# Altium footprint library tyco-hpi.PcbLib: 23 footprints (part 1 of 2)
Each footprint in its own frame and in the unit in brackets; x right, y up, seen from the top. Pads: shape width x height; smd on the part's side, far side on the other; paste and mask are expansions set on the pad; w line width, h text height; cw(c..) or ccw(c..) is an arc to the next point about the centre after c.
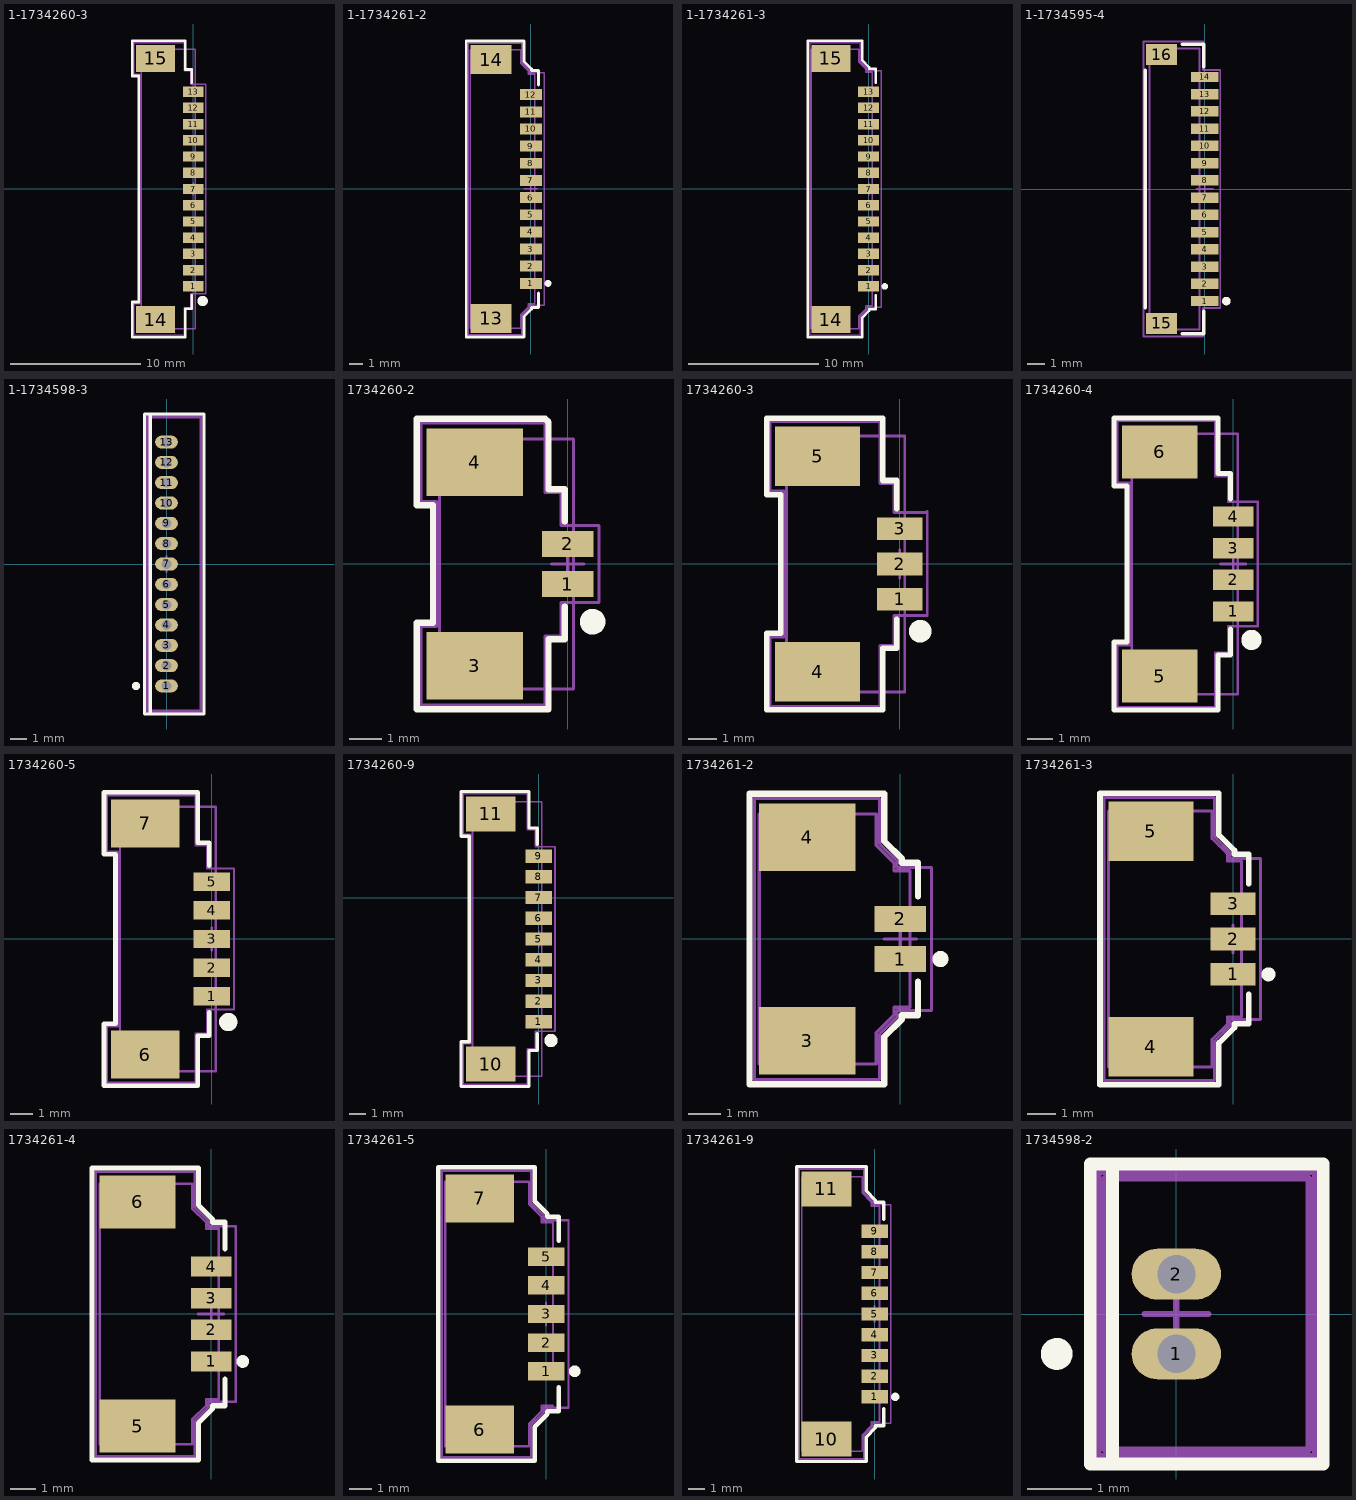
[diagram p0: the footprints below, top view; thin cyan lines are the x and y axes]

## 1-1734260-3 [mm] "13pos, 1.25mm Wire to Board Connector, Header, SMT, Vertical"
height 4.75
pads (15):
  rect 1.6x0.8 smd: 1(0,-7.5) 2(0,-6.25) 3(0,-5) 4(0,-3.75) 5(0,-2.5) 6(0,-1.25) 7(0,0) 8(0,1.25) 9(0,2.5) 10(0,3.75) 11(0,5) 12(0,6.25) 13(0,7.5)
  rect 3x2.1 smd: 14(-2.9,-10.05) 15(-2.9,10.05)
Top Overlay:
  circle w0.4: c0.725,-8.625 r0.2
  lines w0.2: -0.1,-8.2 -0.1,-9.225 -0.6,-9.225 -0.6,-11.4 -4.7,-11.4 -4.7,-8.7 -4.2,-8.7 -4.2,-7.75 -4.2,8.7 -4.7,8.7 -4.7,11.4 -0.6,11.4 -0.6,9.7 -0.6,9.2 -0.1,9.2 -0.1,8.2
Mechanical 13:
  lines w0.1: -0.5,0 0.5,0 ; 0,-0.5 0,0.5 ; -4,-10.775 0.175,-10.775 0.175,10.775 -4,10.775 -4,-10.775
Mechanical 15:
  lines w0.1: -4.575,-11.275 -0.7,-11.275 -0.7,-9.125 -0.2,-9.125 -0.2,-8.075 0.975,-8.075 0.975,8.075 -0.2,8.075 -0.2,9.1 -0.7,9.1 -0.7,11.275 -4.575,11.275 -4.575,8.825 -4.1,8.825 -4.1,-7.975 -4.1,-8.825 -4.575,-8.825 -4.575,-11.275
  text ".Designator" at -1.925,-2.475 h0.5
3D body: height 4.77, standoff 0.02, extent -4,-10.77 0.2,10.77

## 1-1734261-2 [mm] "12pos, 1.25mm Wire to Board Connector, Header, SMT, Right Angle"
height 3.45
pads (14):
  rect 1.6x0.8 smd: 1(0,-6.875) 2(0,-5.625) 3(0,-4.375) 4(0,-3.125) 5(0,-1.875) 6(0,-0.625) 7(0,0.625) 8(0,1.875) 9(0,3.125) 10(0,4.375) 11(0,5.625) 12(0,6.875)
  rect 3x2.1 smd: 13(-2.9,-9.425) 14(-2.9,9.425)
Top Overlay:
  circle w0.25: c1.25,-6.875 r0.125
  lines w0.2: -4.7,-10.775 -0.5,-10.775 -0.5,-9.3 0.05,-8.75 0.05,-8.625 0.55,-8.625 0.55,-7.575 ; -4.7,-10.75 -4.7,10.775 -0.5,10.775 -0.5,9.3 0.05,8.75 0.05,8.625 0.55,8.625 0.55,7.575
Mechanical 13:
  lines w0.1: -0.5,0 0.5,0 ; 0,-0.5 0,0.5 ; -4.4,-10.15 -4.4,10.15 -0.75,10.15 -0.75,9.175 -0.2,8.625 -0.2,8.375 0.3,8.375 0.3,-8.375 -0.2,-8.375 -0.2,-8.625 -0.75,-9.175 -0.75,-10.15 -4.4,-10.15
Mechanical 15:
  lines w0.1: -4.55,-10.625 -4.55,10.625 -0.65,10.625 -0.65,9.225 -0.1,8.675 -0.1,8.475 0.975,8.475 0.975,-8.475 -0.1,-8.475 -0.1,-8.675 -0.65,-9.225 -0.65,-10.625 -4.55,-10.625
  text ".Designator" at -1.925,-1.85 h0.5
3D body: height 3.47, standoff 0.01, extent -4.4,-10.145 0.3,10.145

## 1-1734261-3 [mm] "13pos, 1.25mm Wire to Board Connector, Header, SMT, Right Angle"
height 3.45
pads (15):
  rect 1.6x0.8 smd: 1(0,-7.5) 2(0,-6.25) 3(0,-5) 4(0,-3.75) 5(0,-2.5) 6(0,-1.25) 7(0,0) 8(0,1.25) 9(0,2.5) 10(0,3.75) 11(0,5) 12(0,6.25) 13(0,7.5)
  rect 3x2.1 smd: 14(-2.9,-10.05) 15(-2.9,10.05)
Top Overlay:
  circle w0.25: c1.25,-7.5 r0.125
  lines w0.2: -4.7,-11.4 -0.5,-11.4 -0.5,-9.925 0.05,-9.375 0.05,-9.25 0.55,-9.25 0.55,-8.2 ; -4.7,-11.375 -4.7,11.4 -0.5,11.4 -0.5,9.925 0.05,9.375 0.05,9.25 0.55,9.25 0.55,8.2
Mechanical 13:
  lines w0.1: -0.5,0 0.5,0 ; 0,-0.5 0,0.5 ; -4.4,-10.775 -0.75,-10.775 -0.75,-9.8 -0.2,-9.25 -0.2,-9 0.3,-9 0.3,9 -0.2,9 -0.2,9.25 -0.75,9.8 -0.75,10.775 -4.4,10.775 -4.4,-10.775
Mechanical 15:
  lines w0.1: -4.55,-11.25 -0.65,-11.25 -0.65,-9.85 -0.1,-9.3 -0.1,-9.1 0.975,-9.1 0.975,9.1 -0.1,9.1 -0.1,9.3 -0.65,9.85 -0.65,11.25 -4.55,11.25 -4.55,-11.25
  text ".Designator" at -1.925,-2.475 h0.5
3D body: height 3.47, standoff 0.01, extent -4.4,-10.77 0.3,10.77

## 1-1734595-4 [mm] "14pos, 1.00mm Wire to Board Connector, Header, SMT, Vertical"
height 4.3
pads (16):
  rect 1.6x0.6 smd: 1(0,-6.5) 2(0,-5.5) 3(0,-4.5) 4(0,-3.5) 5(0,-2.5) 6(0,-1.5) 7(0,-0.5) 8(0,0.5) 9(0,1.5) 10(0,2.5) 11(0,3.5) 12(0,4.5) 13(0,5.5) 14(0,6.5)
  rect 1.8x1.2 smd: 15(-2.5,-7.8) 16(-2.5,7.8)
Top Overlay:
  circle w0.25: c1.25,-6.5 r0.125
  lines w0.2: -3.45,-6.9 -3.45,6.9 ; -1.3,-8.4 -0.05,-8.4 -0.05,-7.1 ; -1.3,8.4 -0.05,8.4 -0.05,7.1
Mechanical 13:
  lines w0.1: -0.5,0 0.5,0 ; 0,-0.5 0,0.5 ; -3.2,-8.15 -3.2,8.15 -0.3,8.15 -0.3,-8.15 -3.2,-8.15
Mechanical 15:
  lines w0.1: -3.55,-8.55 -0.1,-8.55 -0.1,-6.9 0.9,-6.9 0.9,6.9 -0.1,6.9 -0.1,8.55 -3.55,8.55 -3.55,-8.55
  text ".Designator" at -1.2,-7.675 h0.5
3D body: height 4.3, standoff 0, extent -3.2,-8.15 0.4,8.15

## 1-1734598-3 [mm] "1.25mm Wire to Board Connector"
height 4.7
pads (13):
  oval 1.4x0.8 hole 0.6: 1(0,-7.5) 2(0,-6.25) 3(0,-5) 4(0,-3.75) 5(0,-2.5) 6(0,-1.25) 7(0,0) 8(0,1.25) 9(0,2.5) 10(0,3.75) 11(0,5) 12(0,6.25) 13(0,7.5)
Top Overlay:
  circle w0.25: c-1.875,-7.5 r0.125
  lines w0.2: -1,-9.2 -1,9.225 ; -1.35,-9.225 -1.35,9.225 2.3,9.225 2.3,-9.225 -1.35,-9.225
Mechanical 13:
  lines w0.1: -0.5,0 0.5,0 ; 0,-0.5 0,0.5 ; -1.125,-9 -1.125,9 2.075,9 2.075,-9 -1.125,-9
Mechanical 15:
  lines w0.1: -1.225,-9.1 -1.225,9.1 2.175,9.1 2.175,-9.1 -1.225,-9.1
  text ".Designator" at 1.25,-7.5 h0.5
3D body: height 4.72, standoff -1.68, extent -1.125,-9 2.075,9

## 1734260-2 [mm] "2pos, 1.25mm Wire to Board Connector, Header, SMT, Vertical"
height 4.75
pads (4):
  rect 1.6x0.8 smd: 1(0,-0.625) 2(0,0.625)
  rect 3x2.1 smd: 3(-2.9,-3.175) 4(-2.9,3.175)
Top Overlay:
  circle w0.4: c0.775,-1.8 r0.2
  lines w0.2: -4.2,1.15 -4.2,1.825 -4.7,1.825 -4.7,4.525 -0.7,4.525 -0.6,4.425 -0.6,2.825 -0.6,2.325 -0.1,2.325 -0.1,1.325 ; -4.2,1.8 -4.2,-0.875 -4.2,-1.825 -4.7,-1.825 -4.7,-4.525 -0.6,-4.525 -0.6,-2.35 -0.1,-2.35 -0.1,-1.325
Mechanical 13:
  lines w0.1: -0.5,0 0.5,0 ; 0,-0.5 0,0.5 ; -4,-3.9 -4,3.9 0.175,3.9 0.175,-3.9 -4,-3.9
Mechanical 15:
  lines w0.1: -4.575,-4.4 -4.575,-1.95 -4.1,-1.95 -4.1,1.95 -4.575,1.95 -4.575,4.4 -0.7,4.4 -0.7,2.225 -0.2,2.225 -0.2,1.2 0.975,1.2 0.975,-1.2 -0.2,-1.2 -0.2,-2.25 -0.7,-2.25 -0.7,-4.4 -4.575,-4.4
  text ".Designator" at -1.2,-1.8 h0.5
3D body: height 4.73, standoff -0.02, extent -4,-3.895 0.2,3.895

## 1734260-3 [mm] "3pos, 1.25mm Wire to Board Connector, Header, SMT, Vertical"
height 4.75
pads (5):
  rect 1.6x0.8 smd: 1(0,-1.25) 2(0,0) 3(0,1.25)
  rect 3x2.1 smd: 4(-2.9,-3.8) 5(-2.9,3.8)
Top Overlay:
  circle w0.4: c0.725,-2.375 r0.2
  lines w0.2: -0.1,-1.95 -0.1,-2.975 -0.6,-2.975 -0.6,-5.15 -4.7,-5.15 -4.7,-2.45 -4.2,-2.45 -4.2,-1.5 -4.2,2.45 -4.7,2.45 -4.7,5.15 -0.6,5.15 -0.6,3.45 -0.6,2.95 -0.1,2.95 -0.1,1.95
Mechanical 13:
  lines w0.1: -0.5,0 0.5,0 ; 0,-0.5 0,0.5 ; -4,-4.525 0.175,-4.525 0.175,4.525 -4,4.525 -4,-4.525
Mechanical 15:
  lines w0.1: 0.975,1.825 -0.2,1.825 -0.2,2.85 -0.7,2.85 -0.7,5.025 -4.575,5.025 -4.575,2.575 -4.1,2.575 -4.1,-2.575 -4.575,-2.575 -4.575,-5.025 -0.7,-5.025 -0.7,-2.875 -0.2,-2.875 -0.2,-1.825 0.975,-1.825 0.975,1.85
  text ".Designator" at -1.2,-2.425 h0.5
3D body: height 4.73, standoff -0.02, extent -4,-4.52 0.2,4.52

## 1734260-4 [mm] "4pos, 1.25mm Wire to Board Connector, Header, SMT, Vertical"
height 4.75
pads (6):
  rect 1.6x0.8 smd: 1(0,-1.875) 2(0,-0.625) 3(0,0.625) 4(0,1.875)
  rect 3x2.1 smd: 5(-2.9,-4.425) 6(-2.9,4.425)
Top Overlay:
  circle w0.4: c0.725,-3 r0.2
  lines w0.2: -0.1,-2.575 -0.1,-3.6 -0.6,-3.6 -0.6,-5.775 -4.7,-5.775 -4.7,-3.075 -4.2,-3.075 -4.2,-2.125 -4.2,2.4 -4.2,3.075 -4.7,3.075 -4.7,5.775 -0.6,5.775 -0.6,4.075 -0.6,3.575 -0.1,3.575 -0.1,2.575
Mechanical 13:
  lines w0.1: -0.5,0 0.5,0 ; 0,-0.5 0,0.5 ; -4,-5.15 0.175,-5.15 0.175,5.15 -4,5.15 -4,-5.15
Mechanical 15:
  lines w0.1: -4.575,-5.65 -0.7,-5.65 -0.7,-3.5 -0.2,-3.5 -0.2,-2.45 0.975,-2.45 0.975,2.45 -0.2,2.45 -0.2,3.475 -0.7,3.475 -0.7,5.65 -4.575,5.65 -4.575,3.2 -4.1,3.2 -4.1,2.35 -4.1,-2.35 -4.1,-3.2 -4.575,-3.2 -4.575,-5.65
  text ".Designator" at -1.2,-3.05 h0.5
3D body: height 4.73, standoff -0.02, extent -4,-5.145 0.2,5.145

## 1734260-5 [mm] "5pos, 1.25mm Wire to Board Connector, Header, SMT, Vertical"
height 4.75
pads (7):
  rect 1.6x0.8 smd: 1(0,-2.5) 2(0,-1.25) 3(0,0) 4(0,1.25) 5(0,2.5)
  rect 3x2.1 smd: 6(-2.9,-5.05) 7(-2.9,5.05)
Top Overlay:
  circle w0.4: c0.725,-3.625 r0.2
  lines w0.2: -0.1,-3.2 -0.1,-4.225 -0.6,-4.225 -0.6,-6.4 -4.7,-6.4 -4.7,-3.7 -4.2,-3.7 -4.2,3.7 -4.7,3.7 -4.7,6.4 -0.6,6.4 -0.6,4.7 -0.6,4.2 -0.1,4.2 -0.1,3.2
Mechanical 13:
  lines w0.1: -4,-5.775 0.175,-5.775 0.175,5.775 -4,5.775 -4,-4.525 ; -0.5,0 0.5,0 ; 0,-0.5 0,0.5
Mechanical 15:
  lines w0.1: -4.575,-6.275 -0.7,-6.275 -0.7,-4.125 -0.2,-4.125 -0.2,-3.075 0.975,-3.075 0.975,3.075 -0.2,3.075 -0.2,4.1 -0.7,4.1 -0.7,6.275 -4.575,6.275 -4.575,3.825 -4.1,3.825 -4.1,2.975 -4.1,-3.825 -4.575,-3.825 -4.575,-6.275
  text ".Designator" at -1.2,-2.425 h0.5
3D body: height 4.73, standoff -0.02, extent -4,-5.77 0.2,5.77

## 1734260-9 [mm] "9pos, 1.25mm Wire to Board Connector, Header, SMT, Vertical"
height 4.75
pads (11):
  rect 1.6x0.8 smd: 1(0,-7.5) 2(0,-6.25) 3(0,-5) 4(0,-3.75) 5(0,-2.5) 6(0,-1.25) 7(0,0) 8(0,1.25) 9(0,2.5)
  rect 3x2.1 smd: 10(-2.9,-10.05) 11(-2.9,5.05)
Top Overlay:
  circle w0.4: c0.725,-8.625 r0.2
  lines w0.2: -0.1,-8.2 -0.1,-9.225 -0.6,-9.225 -0.6,-11.4 -4.7,-11.4 -4.7,-8.7 -4.2,-8.7 -4.2,3.7 -4.7,3.7 -4.7,6.4 -0.6,6.4 -0.6,4.7 -0.6,4.2 -0.1,4.2 -0.1,3.2
Mechanical 13:
  lines w0.1: -0.5,-2.5 0.5,-2.5 ; 0,-3 0,-2 ; -4,-10.775 -4,5.775 0.175,5.775 0.175,-10.775 -4,-10.775
Mechanical 15:
  lines w0.1: -4.575,-11.275 -4.575,-8.825 -4.1,-8.825 -4.1,2.975 -4.1,3.825 -4.575,3.825 -4.575,6.275 -0.7,6.275 -0.7,4.1 -0.2,4.1 -0.2,3.075 0.975,3.075 0.975,-8.075 -0.2,-8.075 -0.2,-9.125 -0.7,-9.125 -0.7,-11.275 -4.575,-11.275
  text ".Designator" at -1.2,-2.425 h0.5
3D body: height 4.73, standoff -0.02, extent -4,-10.77 0.2,5.77

## 1734261-2 [mm] "2pos, 1.25mm Wire to Board Connector, Header, SMT, Right Angle"
height 3.45
pads (4):
  rect 1.6x0.8 smd: 1(0,-0.625) 2(0,0.625)
  rect 3x2.1 smd: 3(-2.9,-3.175) 4(-2.9,3.175)
Top Overlay:
  circle w0.25: c1.25,-0.625 r0.125
  lines w0.2: -4.7,-4.525 -0.5,-4.525 -0.5,-3.05 0.05,-2.5 0.05,-2.375 0.55,-2.375 0.55,-1.325 ; -4.7,-4.5 -4.7,4.525 -0.5,4.525 -0.5,3.05 0.05,2.5 0.05,2.375 0.55,2.375 0.55,1.325
Mechanical 13:
  lines w0.1: -0.5,0 0.5,0 ; 0,-0.5 0,0.5 ; -4.4,-3.9 -4.4,3.9 -0.75,3.9 -0.75,2.925 -0.2,2.375 -0.2,2.125 0.3,2.125 0.3,-2.125 -0.2,-2.125 -0.2,-2.375 -0.75,-2.925 -0.75,-3.9 -4.4,-3.9
Mechanical 15:
  lines w0.1: -4.55,-4.375 -4.55,4.375 -0.65,4.375 -0.65,2.975 -0.1,2.425 -0.1,2.225 0.975,2.225 0.975,-2.225 -0.1,-2.225 -0.1,-2.425 -0.65,-2.975 -0.65,-4.375 -4.55,-4.375
  text ".Designator" at -1.775,-1.875 h0.5
3D body: height 3.47, standoff 0.01, extent -4.4,-3.895 0.3,3.895

## 1734261-3 [mm] "3pos, 1.25mm Wire to Board Connector, Header, SMT, Right Angle"
height 3.45
pads (5):
  rect 1.6x0.8 smd: 1(0,-1.25) 2(0,0) 3(0,1.25)
  rect 3x2.1 smd: 4(-2.9,-3.8) 5(-2.9,3.8)
Top Overlay:
  circle w0.25: c1.25,-1.25 r0.125
  lines w0.2: -4.7,-5.15 -0.5,-5.15 -0.5,-3.675 0.05,-3.125 0.05,-3 0.55,-3 0.55,-1.95 ; -4.7,-5.125 -4.7,5.125 ; -4.7,5.15 -0.5,5.15 -0.5,3.675 0.05,3.125 0.05,3 0.55,3 0.55,1.95
Mechanical 13:
  lines w0.1: -0.5,0 0.5,0 ; 0,-0.5 0,0.5 ; -4.4,-4.525 -4.4,4.525 -0.75,4.525 -0.75,3.55 -0.2,3 -0.2,2.75 0.3,2.75 0.3,-2.75 -0.2,-2.75 -0.2,-3 -0.75,-3.55 -0.75,-4.525 -4.4,-4.525
Mechanical 15:
  lines w0.1: -4.55,5 -0.65,5 -0.65,3.6 -0.1,3.05 -0.1,2.85 0.975,2.85 0.975,-2.85 -0.1,-2.85 -0.1,-3.05 -0.65,-3.6 -0.65,-5 -4.55,-5 -4.55,5.025
  text ".Designator" at -1.2,-2.425 h0.5
3D body: height 3.47, standoff 0.01, extent -4.4,-4.52 0.3,4.52

## 1734261-4 [mm] "4pos, 1.25mm Wire to Board Connector, Header, SMT, Right Angle"
height 3.45
pads (6):
  rect 1.6x0.8 smd: 1(0,-1.875) 2(0,-0.625) 3(0,0.625) 4(0,1.875)
  rect 3x2.1 smd: 5(-2.9,-4.425) 6(-2.9,4.425)
Top Overlay:
  circle w0.25: c1.25,-1.875 r0.125
  lines w0.2: -4.7,-5.775 -0.5,-5.775 -0.5,-4.3 0.05,-3.75 0.05,-3.625 0.55,-3.625 0.55,-2.575 ; -4.7,-5.75 -4.7,5.775 -0.5,5.775 -0.5,4.3 0.05,3.75 0.05,3.625 0.55,3.625 0.55,2.575
Mechanical 13:
  lines w0.1: -0.5,0 0.5,0 ; 0,-0.5 0,0.5 ; -4.4,-5.15 -0.75,-5.15 -0.75,-4.175 -0.2,-3.625 -0.2,-3.375 0.3,-3.375 0.3,3.375 -0.2,3.375 -0.2,3.625 -0.75,4.175 -0.75,5.15 -4.4,5.15 -4.4,-5.15
Mechanical 15:
  lines w0.1: -4.55,-5.625 -0.65,-5.625 -0.65,-4.225 -0.1,-3.675 -0.1,-3.475 0.975,-3.475 0.975,3.475 -0.1,3.475 -0.1,3.675 -0.65,4.225 -0.65,5.625 -4.55,5.625 -4.55,-5.625
  text ".Designator" at -1.2,-3.05 h0.5
3D body: height 3.47, standoff 0.01, extent -4.4,-5.145 0.3,5.145

## 1734261-5 [mm] "5pos, 1.25mm Wire to Board Connector, Header, SMT, Right Angle"
height 3.45
pads (7):
  rect 1.6x0.8 smd: 1(0,-2.5) 2(0,-1.25) 3(0,0) 4(0,1.25) 5(0,2.5)
  rect 3x2.1 smd: 6(-2.9,-5.05) 7(-2.9,5.05)
Top Overlay:
  circle w0.25: c1.25,-2.5 r0.125
  lines w0.2: 0.55,-3.2 0.55,-4.25 0.05,-4.25 0.05,-4.375 -0.5,-4.925 -0.5,-6.4 -4.7,-6.4 -4.7,6.4 -0.5,6.4 -0.5,4.925 0.05,4.375 0.05,4.25 0.55,4.25 0.55,3.2
Mechanical 13:
  lines w0.1: -0.5,0 0.5,0 ; 0,-0.5 0,0.5 ; 0.3,-4 -0.2,-4 -0.2,-4.25 -0.75,-4.8 -0.75,-5.775 -4.4,-5.775 -4.4,5.775 -0.75,5.775 -0.75,4.8 -0.2,4.25 -0.2,4 0.3,4 0.3,-2.75
Mechanical 15:
  lines w0.1: -4.55,-6.25 -0.65,-6.25 -0.65,-4.85 -0.1,-4.3 -0.1,-4.1 0.975,-4.1 0.975,4.1 -0.1,4.1 -0.1,4.3 -0.65,4.85 -0.65,6.25 -4.55,6.25 -4.55,-6.25
  text ".Designator" at -1.2,-2.425 h0.5
3D body: height 3.47, standoff 0.01, extent -4.4,-5.77 0.3,5.77

## 1734261-9 [mm] "9pos, 1.25mm Wire to Board Connector, Header, SMT, Right Angle"
height 3.45
pads (11):
  rect 1.6x0.8 smd: 1(0,-5) 2(0,-3.75) 3(0,-2.5) 4(0,-1.25) 5(0,0) 6(0,1.25) 7(0,2.5) 8(0,3.75) 9(0,5)
  rect 3x2.1 smd: 10(-2.9,-7.55) 11(-2.9,7.55)
Top Overlay:
  circle w0.25: c1.25,-5 r0.125
  lines w0.2: -4.7,-8.9 -0.5,-8.9 -0.5,-7.425 0.05,-6.875 0.05,-6.75 0.55,-6.75 0.55,-5.7 ; -4.7,-8.875 -4.7,8.9 -0.5,8.9 -0.5,7.425 0.05,6.875 0.05,6.75 0.55,6.75 0.55,5.7
Mechanical 13:
  lines w0.1: -0.5,0 0.5,0 ; 0,-0.5 0,0.5 ; -4.4,-8.275 -4.4,8.275 -0.75,8.275 -0.75,7.3 -0.2,6.75 -0.2,6.5 0.3,6.5 0.3,-6.5 -0.2,-6.5 -0.2,-6.75 -0.75,-7.3 -0.75,-8.275 -4.4,-8.275
Mechanical 15:
  lines w0.1: -4.55,-8.75 -4.55,8.75 -0.65,8.75 -0.65,7.35 -0.1,6.8 -0.1,6.6 0.975,6.6 0.975,-6.6 -0.1,-6.6 -0.1,-6.8 -0.65,-7.35 -0.65,-8.75 -4.55,-8.75
  text ".Designator" at -2.1,-2.25 h0.5
3D body: height 3.47, standoff 0.01, extent -4.4,-8.27 0.3,8.27

## 1734598-2 [mm] "1.25mm Wire to Board Connector"
height 4.7
pads (2):
  oval 1.4x0.8 hole 0.6: 1(0,-0.625) 2(0,0.625)
Top Overlay:
  circle w0.25: c-1.875,-0.625 r0.125
  lines w0.2: -1,-2.35 -1,2.35 ; -1.35,-2.35 2.3,-2.35 2.3,2.35 -1.35,2.35 -1.35,-2.35
Mechanical 13:
  lines w0.1: -0.5,0 0.5,0 ; 0,-0.5 0,0.5 ; -1.125,-2.125 2.075,-2.125 2.075,2.125 -1.125,2.125 -1.125,-2.125
Mechanical 15:
  lines w0.1: -1.225,-2.225 2.175,-2.225 2.175,2.225 -1.225,2.225 -1.225,-2.225
  text ".Designator" at 1.375,-0.625 h0.5
3D body: height 4.72, standoff -1.68, extent -1.125,-2.125 2.075,2.125